# Altium schematic symbol library connectors_socets.schlib: 181 symbols (part 2 of 2)
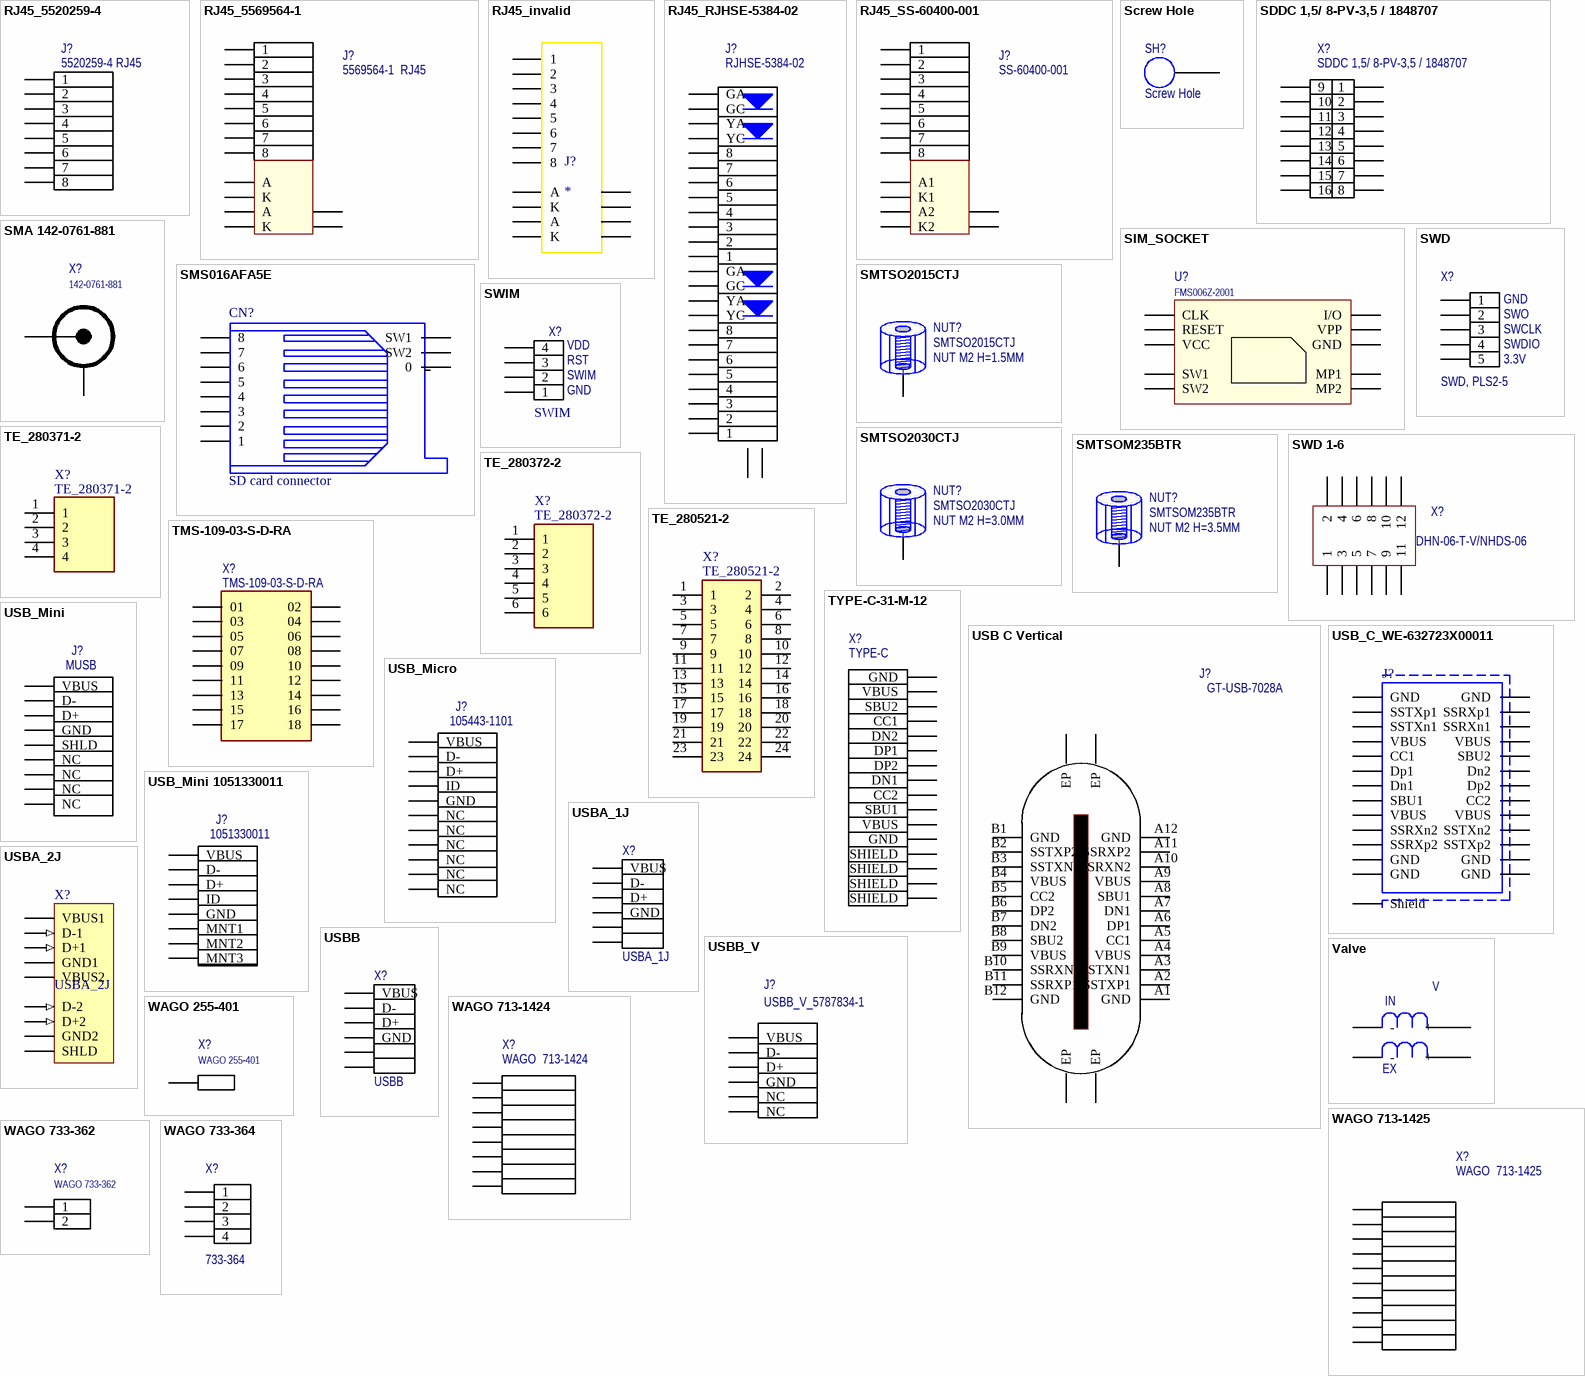
[diagram p5: symbols RJ45_5520259-4 to WAGO 733-364]

## USB_Micro
designator J?, comment 105443-1101
micro USB; ContactMaterial: Copper Alloy; ContactPlating: Gold (30); PCB_Layout: Complies with manufacturer's recommendation.; DrillSize: Corresponds to nominal value.; PanelGround: Without; Published: 15-Jul-2004; DatasheetDocument: 27-Jun-2003; PackageDocument: 27-Jun-2003; PackageReference: 440247; Publisher: Altium Limited; HousingMaterial: Thermoplastic; ComponentLink1Description: Manufacturer Link; ComponentLink1URL: http://www.tycoelectronics.com/; ComponentLink2Description: Packaging Specification; ComponentLink2URL: http://ecommas.tycoelectronics.com/commerce/DocumentDelivery/DDEController?Action=showdoc&DocId=Customer+Drawing%7F440247%7FD%7Fpdf%7FEnglish%7FC_440247_D.pdf
footprint UX60-MB (Connector; USB2.0, Type B, SM; 5 Position; Right Angle)
pins: 1 VBUS (power) "Power", 2 D- "-DATA", 3 D+ "+DATA", 4 ID (power) "Ground", 5 GND "Shield", 6 NC "Shield", 7 NC "Shield", 8 NC "Shield", 9 NC "Shield", 10 NC "Shield", 11 NC "Shield"

## USB_Mini
designator J?, comment MUSB
mini USB; ContactMaterial: Copper Alloy; ContactPlating: Gold (30); PCB_Layout: Complies with manufacturer's recommendation.; DrillSize: Corresponds to nominal value.; PanelGround: Without; Published: 15-Jul-2004; DatasheetDocument: 27-Jun-2003; PackageDocument: 27-Jun-2003; PackageReference: 440247; Publisher: Altium Limited; HousingMaterial: Thermoplastic; ComponentLink1Description: Manufacturer Link; ComponentLink1URL: http://www.tycoelectronics.com/; ComponentLink2Description: Packaging Specification; ComponentLink2URL: http://ecommas.tycoelectronics.com/commerce/DocumentDelivery/DDEController?Action=showdoc&DocId=Customer+Drawing%7F440247%7FD%7Fpdf%7FEnglish%7FC_440247_D.pdf
footprint UX60-MB (Connector; USB2.0, Type B, SM; 5 Position; Right Angle)
pins: 1 VBUS (power) "Power", 2 D- "-DATA", 3 D+ "+DATA", 4 GND (power) "Ground", 5 SHLD "Shield", 6 NC "Shield", 7 NC "Shield", 8 NC "Shield", 9 NC "Shield"

## USB_Mini 1051330011
designator J?, comment 1051330011
mini USB 1051330011; ContactMaterial: Copper Alloy; ContactPlating: Gold (30); PCB_Layout: Complies with manufacturer's recommendation.; DrillSize: Corresponds to nominal value.; PanelGround: Without; Published: 15-Jul-2004; DatasheetDocument: 27-Jun-2003; PackageDocument: 27-Jun-2003; PackageReference: 440247; Publisher: Altium Limited; HousingMaterial: Thermoplastic; ComponentLink1Description: Manufacturer Link; ComponentLink1URL: http://www.tycoelectronics.com/; ComponentLink2Description: Packaging Specification; ComponentLink2URL: http://ecommas.tycoelectronics.com/commerce/DocumentDelivery/DDEController?Action=showdoc&DocId=Customer+Drawing%7F440247%7FD%7Fpdf%7FEnglish%7FC_440247_D.pdf
footprint USB micro vertical (1051330011)
pins: 1 VBUS (power) "Power", 2 D- "-DATA", 3 D+ "+DATA", 4 ID (power) "Ground", 5 GND "Shield", MNT1 "Shield", MNT2 "Shield", MNT3 "Shield"

## USBA_1J
designator X?
USB 1.1, Right Angle, Thru-Hole, Reverse Type, Receptacle, 4 Position, Black; ContactMaterial: Copper Alloy; ContactPlating: Gold Flash; TerminationLength: 2.40mm [0.094in.]; PCB_Layout: Complies with manufacturer's recommendation.; DrillSize: Corresponds to nominal value.; PanelGround: Without; Published: 15-Jul-2004; DatasheetDocument: 18-Mar-2004; PackageDocument: 18-Mar-2004; PackageReference: 440068; Publisher: Altium Limited; HousingMaterial: Glass-Filled Thermoplastic; ComponentLink1Description: Manufacturer Link; ComponentLink1URL: http://www.tycoelectronics.com/; ComponentLink2Description: Packaging Specification; ComponentLink2URL: http://ecommas.tycoelectronics.com/commerce/DocumentDelivery/DDEController?Action=showdoc&DocId=Customer+Drawing%7F440068%7FD%7Ftif%7FEnglish%7FC_440068_D.tif
footprint USBA_1J (Connector; USB1.1, Reverse Type, Thru-Hole; 4 Position; Right Angle)
pins: 1 VBUS "Power", 2 D- "-DATA", 3 D+ "+DATA", 4 GND (power) "Ground", 5 SHLD "Shield", 6 SHLD "Shield"

## USBA_2J
designator X?
USB 1.1, Right Angle, Thru-Hole, Reverse Type, Receptacle, 4 Position, Black; ContactMaterial: Copper Alloy; ContactPlating: Gold Flash; TerminationLength: 2.40mm [0.094in.]; PCB_Layout: Complies with manufacturer's recommendation.; DrillSize: Corresponds to nominal value.; PanelGround: Without; Published: 15-Jul-2004; DatasheetDocument: 18-Mar-2004; PackageDocument: 18-Mar-2004; PackageReference: 440068; Publisher: Altium Limited; HousingMaterial: Glass-Filled Thermoplastic; ComponentLink1Description: Manufacturer Link; ComponentLink1URL: http://www.tycoelectronics.com/; ComponentLink2Description: Packaging Specification; ComponentLink2URL: http://ecommas.tycoelectronics.com/commerce/DocumentDelivery/DDEController?Action=showdoc&DocId=Customer+Drawing%7F440068%7FD%7Ftif%7FEnglish%7FC_440068_D.tif
footprint USBA-2J (Dual port USB connector)
pins: 1 VBUS1 (power) "Power", 2 D-1 (in) "-DATA", 3 D+1 (in) "+DATA", 4 GND1 (power) "Ground", 5 VBUS2 (power) "Power", 6 D-2 (in) "-DATA", 7 D+2 (in) "+DATA", 8 GND2 (power) "Ground", A SHLD (power) "Ground"

## USBB
designator X?
USB 1.1, Right Angle, Thru-Hole, Reverse Type, Receptacle, 4 Position, Black; ContactMaterial: Copper Alloy; ContactPlating: Gold Flash; TerminationLength: 2.40mm [0.094in.]; PCB_Layout: Complies with manufacturer's recommendation.; DrillSize: Corresponds to nominal value.; PanelGround: Without; Published: 15-Jul-2004; DatasheetDocument: 18-Mar-2004; PackageDocument: 18-Mar-2004; PackageReference: 440068; Publisher: Altium Limited; HousingMaterial: Glass-Filled Thermoplastic; ComponentLink1Description: Manufacturer Link; ComponentLink1URL: http://www.tycoelectronics.com/; ComponentLink2Description: Packaging Specification; ComponentLink2URL: http://ecommas.tycoelectronics.com/commerce/DocumentDelivery/DDEController?Action=showdoc&DocId=Customer+Drawing%7F440068%7FD%7Ftif%7FEnglish%7FC_440068_D.tif
footprint USBB
pins: 1 VBUS "Power", 2 D- "-DATA", 3 D+ "+DATA", 4 GND (power) "Ground", 5 SHLD "Shield", 6 SHLD "Shield"

## USBB_V
designator J?, comment USBB_V_5787834-1
USB; ContactMaterial: Copper Alloy; ContactPlating: Gold (30); PCB_Layout: Complies with manufacturer's recommendation.; DrillSize: Corresponds to nominal value.; PanelGround: Without; Published: 15-Jul-2004; DatasheetDocument: 27-Jun-2003; PackageDocument: 27-Jun-2003; PackageReference: 440247; Publisher: Altium Limited; HousingMaterial: Thermoplastic; ComponentLink1Description: Manufacturer Link; ComponentLink1URL: http://www.tycoelectronics.com/; ComponentLink2Description: Packaging Specification; ComponentLink2URL: http://ecommas.tycoelectronics.com/commerce/DocumentDelivery/DDEController?Action=showdoc&DocId=Customer+Drawing%7F440247%7FD%7Fpdf%7FEnglish%7FC_440247_D.pdf
footprint USBB_V_5787834-1
pins: 1 VBUS (power) "Power", 2 D- "-DATA", 3 D+ "+DATA", 4 GND (power) "Ground", 5 NC "Shield", 6 NC "Shield"

## Valve
designator V  (value not drawn)
footprint Valve leader
footprint Valve leader
pins: COM +, COM +, EX -, IN -

## WAGO 255-401
designator X?
Connector 1Pin
footprint 255-401 (wago 1 pin)
pins: 1

## WAGO 713-1424
designator X?, comment WAGO  713-1424
Power connector
footprint WAGO  713-1424 (PCB Connectror)
pins: 1, 2, 3, 4, 5, 6, 7, 8

## WAGO 713-1425
designator X?, comment WAGO  713-1425
Power connector
footprint WAGO  713-1425 (PCB Connectror)
pins: 1, 2, 3, 4, 5, 6, 7, 8, 9, 10

## WAGO 733-362
designator X?
Connector 2Pin 2.5 pitch
footprint WAGO 733-362 (PCB Connectror)
pins: 1, 2

## WAGO 733-364
designator X?, comment 733-364
PCB Connectror 2.5 Pitch
footprint WAGO 733-364 (PCB Connectror)
pins: 1, 2, 3, 4